# EAGLE library part LTC3827-1 (library PowerProducts)
LT-Spice library generated with : ltspice.ulp from: D:/Program Files (x86)/LTC/LTspiceIV/lib/sym/PowerProducts/LTC3831*.asy at 07.10.2012 18:38:17
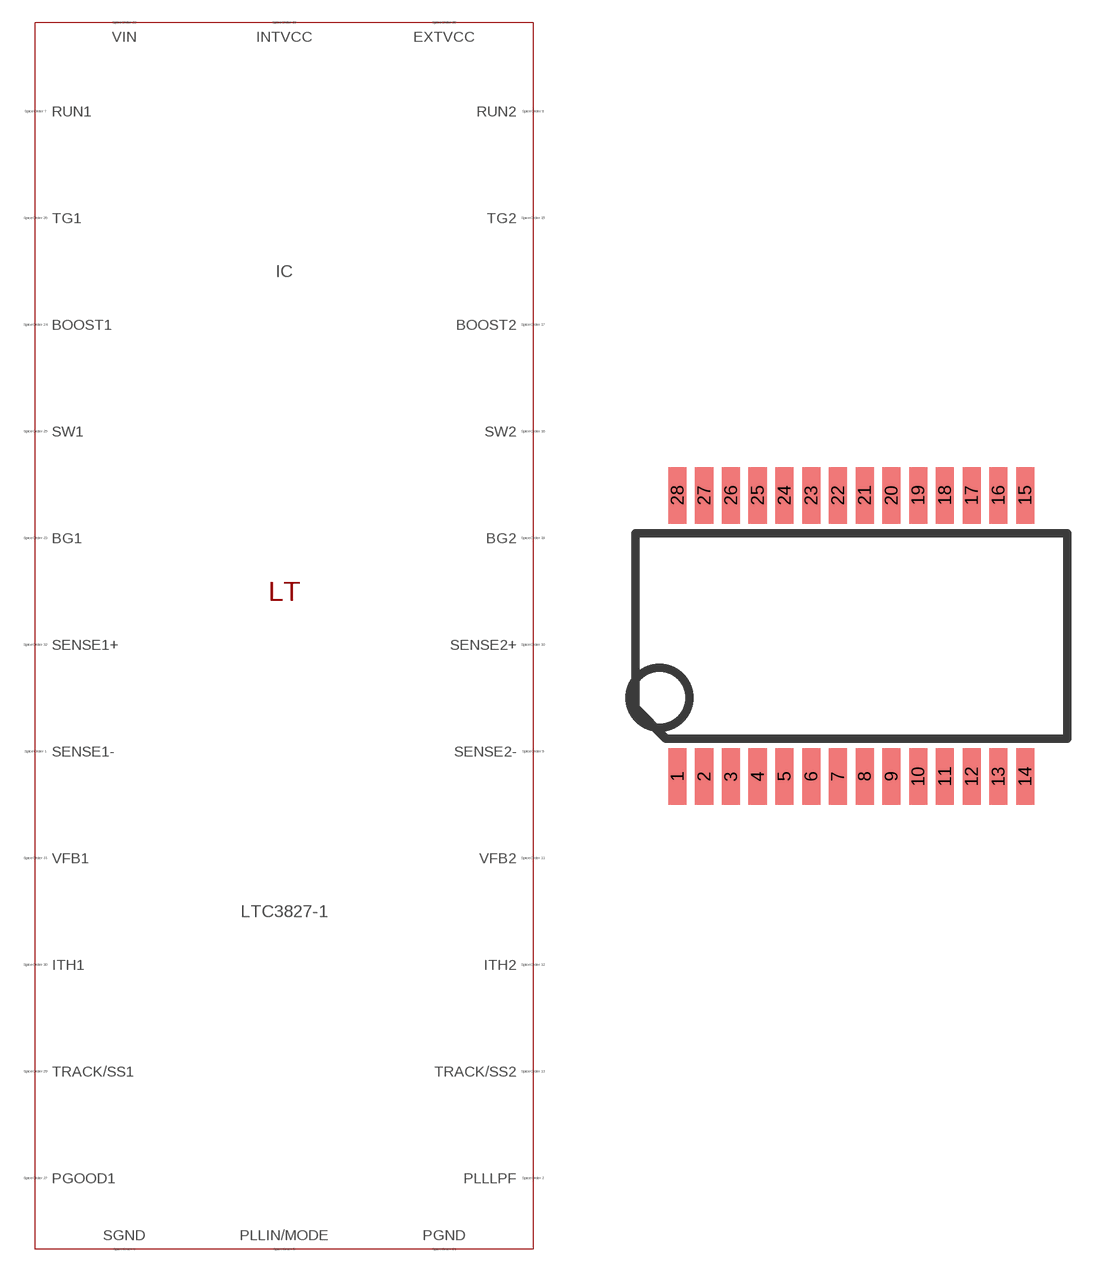
[diagram p353: symbol with the pads of SSOP28(G); footprint SSOP28(G)]

Designator prefix IC

## LTC3827-1 (SPICEMODEL: LTC3827-1.sub; SPICEPREFIX: X; VALUE2: LTC3827-1)  [SSOP28(G)]
1  ITH1  pas
2  VFB1  pas
3  SENSE1+  pas
4  SENSE1-  pas
5  PLLLPF  pas
6  PLLIN/MODE  pas
7  SGND  pas
8  RUN1  pas
9  RUN2  pas
10  SENSE2-  pas
11  SENSE2+  pas
12  VFB2  pas
13  ITH2  pas
14  TRACK/SS2  pas
15  TG2  pas
16  SW2  pas
17  BOOST2  pas
18  BG2  pas
19  INTVCC  pas
20  EXTVCC  pas
21  PGND  pas
22  VIN  pas
23  BG1  pas
24  BOOST1  pas
25  SW1  pas
26  TG1  pas
27  PGOOD1  pas
28  TRACK/SS1  pas

## Footprint SSOP28(G) (pad centres in mm)
Package generated from: SSOP28(G).asc (!PADS-POWERPCB-V5.0-BASIC! DESIGN DATABASE ASCII FILE 1.0) with :import-pads-powerpcb-v5.ulp Version 1.0.1 at 04.10.2012 14:11:39
smd 0.66 x 2.055: 1 -6.338,-5.122; 2 -5.362,-5.122; 3 -4.388,-5.122; 4 -3.413,-5.122; 5 -2.438,-5.122; 6 -1.462,-5.122; 7 -0.487,-5.122; 8 0.487,-5.122; 9 1.462,-5.122; 10 2.438,-5.122; 11 3.413,-5.122; 12 4.388,-5.122; 13 5.362,-5.122; 14 6.338,-5.122; 15 6.338,5.122; 16 5.362,5.122; 17 4.388,5.122; 18 3.413,5.122; 19 2.438,5.122; 20 1.462,5.122; 21 0.487,5.122; 22 -0.487,5.122; 23 -1.462,5.122; 24 -2.438,5.122; 25 -3.413,5.122; 26 -4.388,5.122; 27 -5.362,5.122; 28 -6.338,5.122